# EAGLE library part MOTOR-DRIVER-DRV8835 (library FlashPCB_ICs)
DRV8835 - Bipolar Motor Driver Power MOSFET Parallel 12-WSON (2x3) Technical Specifications: Dual H-Bridge Motor Driver Capable of driving 2x DC Motors or 1x Stepper Motor Separate Motor & Logic Supply Pins: Logic Supply Voltage: 2V~7V Motor Supply Voltage: 0V~11V PWM or Phase/Eanble Inteface Component Search: DRV8835 <https://www.flashpcb.com/components> Datasheet: DRV8835 Dual Low-Voltage H-Bridge IC datasheet (Rev. H) <https://www.ti.com/lit/ds/symlink/drv8835.pdf?HQS=dis-dk-null-digikeymode-dsf-pf-null-wwe&ts=1682366471413&ref_url=https%253A%252F%252Fwww.ti.com%252Fgeneral%252Fdocs%252Fsuppproductinfo.tsp%253FdistId%253D10%2526gotoUrl%253Dhttps%253A%252F%252Fwww.ti.com%252Flit%252Fgpn%252Fdrv8835>
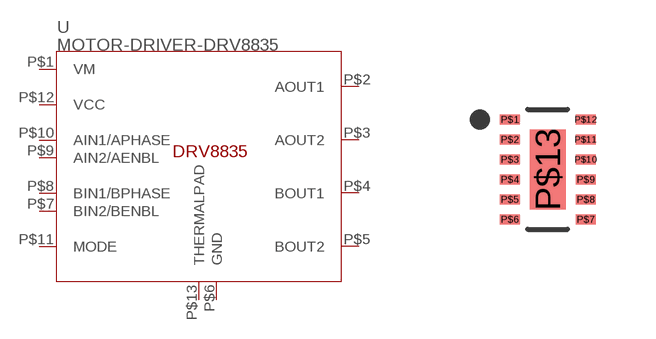
[diagram p63: symbol with the pads of 12-WSON; footprint 12-WSON]

Designator prefix U

## MOTOR-DRIVER-DRV8835  [12-WSON]
P$1  VM
P$2  AOUT1
P$3  AOUT2
P$4  BOUT1
P$5  BOUT2
P$6  GND
P$7  BIN2/BENBL
P$8  BIN1/BPHASE
P$9  AIN2/AENBL
P$10  AIN1/APHASE
P$11  MODE
P$12  VCC
P$13  THERMALPAD

## Footprint 12-WSON (pad centres in mm)
smd 0.5 x 0.25: P$1 -0.95,1.25; P$2 -0.95,0.75; P$3 -0.95,0.25; P$4 -0.95,-0.25; P$5 -0.95,-0.75; P$6 -0.95,-1.25; P$7 0.95,-1.25; P$8 0.95,-0.75; P$9 0.95,-0.25; P$10 0.95,0.25; P$11 0.95,0.75; P$12 0.95,1.25
smd 0.9 x 2: P$13 0,0